# Altium integrated library CH340C.IntLib: 1 symbol
Pins are listed as number, name and electrical type; pins without a type are passive.

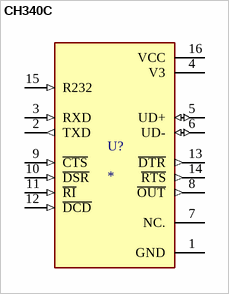
[diagram p0: symbol CH340C]

## CH340C
designator U?
USB to serial chip CH340; MP: CH340C; Package: None; Value: *; Price: None; Availability: Unavailable
footprint SOIC127P600X180-16N
pins: 1 GND (power), 2 TXD (out), 3 RXD (in), 4 V3 (power), 5 UD+ (io), 6 UD- (io), 7 NC., 8 ~{OUT} (out), 9 ~{CTS} (in), 10 ~{DSR} (in), 11 ~{RI} (in), 12 ~{DCD} (in), 13 ~{DTR} (out), 14 ~{RTS} (out), 15 R232 (in), 16 VCC (power)